# EAGLE library part LSM330DL (library untitled)
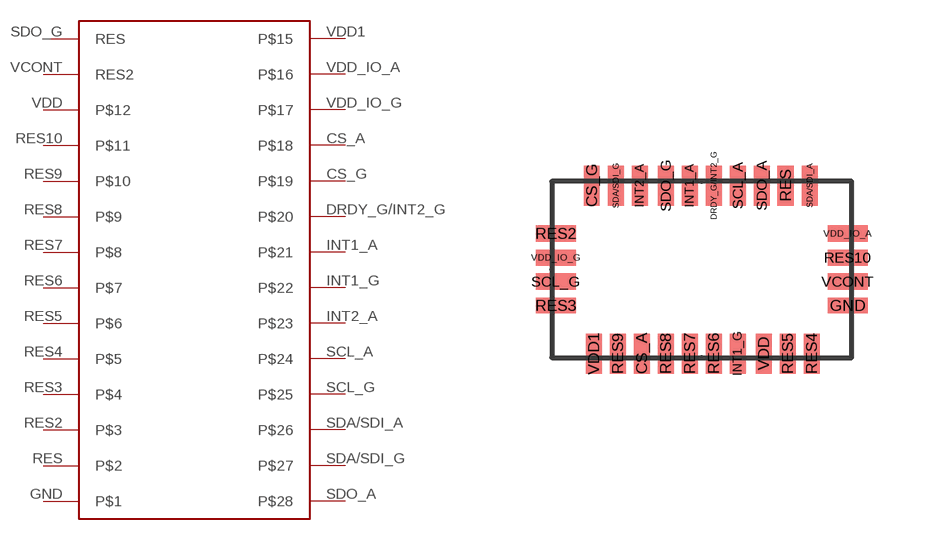
[diagram p0: symbol with the pads of LSM330DL; footprint LSM330DL]

Designator prefix -

## LSM330DL  [LSM330DL]
CS_A  P$18  oc
CS_G  P$19  oc
DRDY_G/INT2_G  P$20  oc
GND  P$1  oc
INT1_A  P$21  oc
INT1_G  P$22  oc
INT2_A  P$23  oc
RES  P$2  oc
RES2  P$3  oc
RES3  P$4  oc
RES4  P$5  oc
RES5  P$6  oc
RES6  P$7  oc
RES7  P$8  oc
RES8  P$9  oc
RES9  P$10  oc
RES10  P$11  oc
SCL_A  P$24  oc
SCL_G  P$25  oc
SDA/SDI_A  P$26  oc
SDA/SDI_G  P$27  oc
SDO_A  P$28  oc
SDO_G  RES  oc
VCONT  RES2  oc
VDD  P$12  oc
VDD1  P$15  oc
VDD_IO_A  P$16  oc
VDD_IO_G  P$17  oc

## Footprint LSM330DL (pad centres in mm)
smd 0.4 x 1: CS_A 2.25,0.1; CS_G 1,4.3; DRDY_G/INT2_G 4.05,4.3; INT1_A 3.45,4.3; INT1_G 4.65,0.1; INT2_A 2.2,4.3; RES 5.85,4.3; RES4 6.5,0.1; RES5 5.9,0.1; RES6 4.05,0.1; RES7 3.45,0.1; RES8 2.85,0.1; RES9 1.65,0.1; SCL_A 4.65,4.3; SDA/SDI_A 6.45,4.3; SDA/SDI_G 1.6,4.3; SDO_A 5.25,4.3; SDO_G 2.85,4.3; VDD 5.3,0.1; VDD1 1.05,0.1
smd 1 x 0.4: GND 7.4,1.3; RES2 0.1,3.1; RES3 0.1,1.3; RES10 7.4,2.5; SCL_G 0.1,1.9; VCONT 7.4,1.9; VDD_IO_A 7.4,3.1; VDD_IO_G 0.1,2.5